# EAGLE library part LT1990 (library AKA_test)
Linear Technology LT1990 <http://cds.linear.com/docs/en/datasheet/1990fb.pdf> ±250V Input Range G = 1, 10, Micropower, Difference Amplifier High Common Mode Voltage Range: 85V Window (VS = 5V, 0V) ±250V (VS = ±15V) Input Protection to ±350V High Input Impedance: 2MΩ Differential, 500kΩ Common Mode Wide Supply Range: 2.7V to 36V Rail-to-Rail Output Description The LT® 1990 is a micropower precision difference amplifier with a very high common mode input voltage range. It has pin selectable gains of 1 or 10. The LT1990 operates over a ±250V common mode voltage range on a ±15V supply. The inputs are fault protected from common mode voltage transients up to ±350V and differential voltages up to ±500V. The LT1990 is ideally suited for both high side and low side current or voltage monitoring. On a single 5V supply, the LT1990 has an adjustable 85V input range, 70dB min CMRR and draws less than 120µA supply current. The rail-to-rail output maximizes the dynamic range, especially important for single supplies as low as 2.7V. The LT1990 is specified for single 3V, 5V and ±15V supplies over both commercial and industrial temperature ranges. The LT1990 is available in the 8-pin SO package.
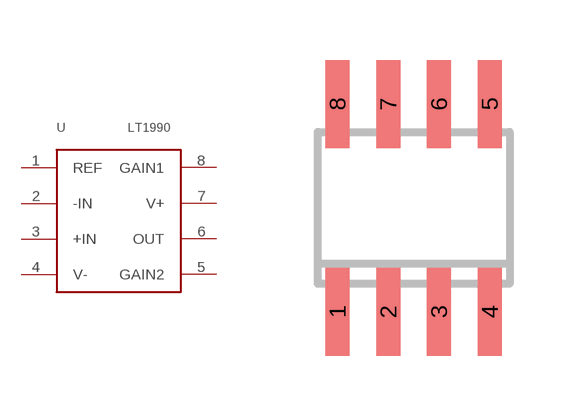
[diagram p6: symbol with the pads of SOIC8; footprint SOIC8]

Designator prefix U

## LT1990  [SOIC8]
1  REF
2  -IN  in
3  +IN  in
4  V-  pwr
5  GAIN2
6  OUT  out
7  V+  pwr
8  GAIN1

## Footprint SOIC8 (pad centres in mm)
Small Outline IC
smd 0.6 x 2.2: 1 -1.905,-2.6; 2 -0.635,-2.6; 3 0.635,-2.6; 4 1.905,-2.6; 5 1.905,2.6; 6 0.635,2.6; 7 -0.635,2.6; 8 -1.905,2.6